# EAGLE library part W25Q128JVSIM_TR (library W25Q128JVSIM_TR)
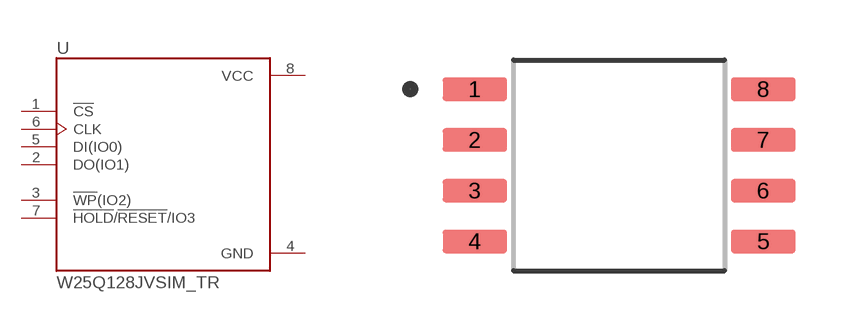
[diagram p0: symbol with the pads of SOIC127P790X216-8N; footprint SOIC127P790X216-8N]

Designator prefix U

## W25Q128JVSIM_TR (CHECK_PRICES: https://www.snapeda.com/parts/W25Q128JVSIM%20TR/Winbond+Electronics/view-part/?ref=eda; DESCRIPTION: FLASH - NOR Memory IC 128Mb (16M x 8) SPI - Quad I/O, QPI, DTR 133 MHz 8-SOIC; DIGIKEY_PART_NUMBER: W25Q128JVSIMTR-ND; MF: Winbond Electronics; MP: W25Q128JVSIM TR; PACKAGE: SOIC-8 Winbond Electronics; PURCHASE-URL: https://www.snapeda.com/api/url_track_click_mouser/?unipart_id=1598729&manufacturer=Winbond Electronics&part_name=W25Q128JVSIM TR&search_term=w25q128jvs; SNAPEDA_LINK: https://www.snapeda.com/parts/W25Q128JVSIM%20TR/Winbond+Electronics/view-part/?ref=snap)  [SOIC127P790X216-8N]
1  !CS  in
2  DO(IO1)
3  !WP!(IO2)
4  GND  pwr
5  DI(IO0)
6  CLK  in
7  !HOLD!/!RESET!/IO3
8  VCC  pwr

## Footprint SOIC127P790X216-8N (pad centres in mm)
smd 1.61 x 0.58: 1 -3.605,1.905; 2 -3.605,0.635; 3 -3.605,-0.635; 4 -3.605,-1.905; 5 3.605,-1.905; 6 3.605,-0.635; 7 3.605,0.635; 8 3.605,1.905